# EAGLE library part 690367181672 (library power_distribution)
Würth Mini Module Female Connector w/o Latch & w/o Polarization
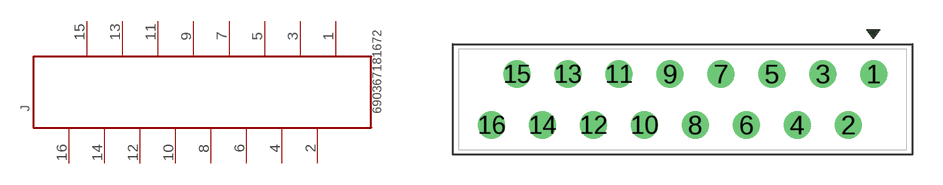
[diagram p7: symbol with the pads of 690367181672; footprint 690367181672]

Designator prefix J

## 690367181672 (MF: Würth Elektronik; MPN: 690367181672)  [690367181672]
1  16  pas
2  15  pas
3  14  pas
4  13  pas
5  12  pas
6  11  pas
7  10  pas
8  9  pas
9  8  pas
10  7  pas
11  6  pas
12  5  pas
13  4  pas
14  3  pas
15  2  pas
16  1  pas

## Footprint 690367181672 (pad centres in mm)
drill 0.85: 1 9.525,1.27; 2 8.255,-1.27; 3 6.985,1.27; 4 5.715,-1.27; 5 4.445,1.27; 6 3.175,-1.27; 7 1.905,1.27; 8 0.635,-1.27; 9 -0.635,1.27; 10 -1.905,-1.27; 11 -3.175,1.27; 12 -4.445,-1.27; 13 -5.715,1.27; 14 -6.985,-1.27; 15 -8.255,1.27; 16 -9.525,-1.27